# Altium footprint library eecs5x.PcbLib: 161 footprints (part 11 of 11)
Each footprint in its own frame and in the unit in brackets; x right, y up, seen from the top. Pads: shape width x height; smd on the part's side, far side on the other; paste and mask are expansions set on the pad; w line width, h text height; cw(c..) or ccw(c..) is an arc to the next point about the centre after c.
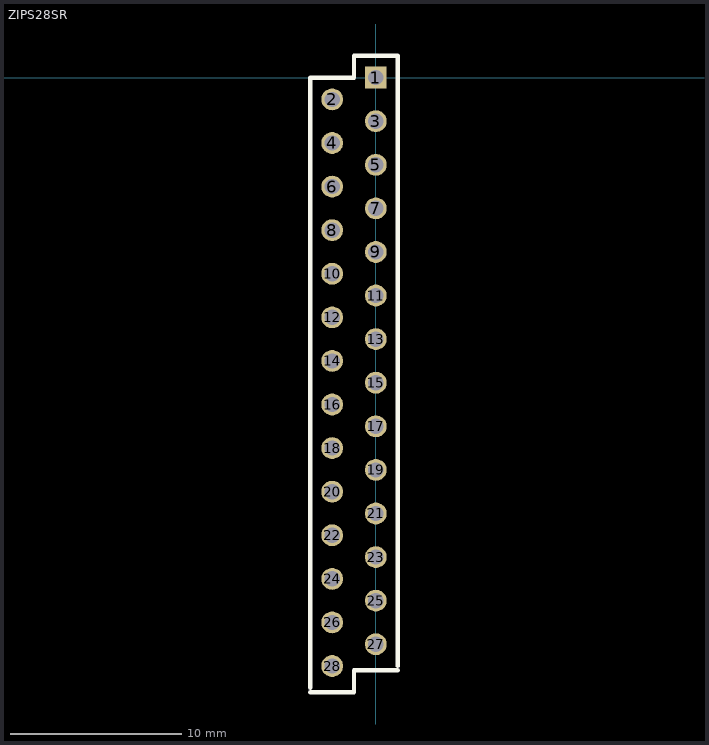
[diagram p10: the footprint, top view; thin cyan lines are the x and y axes]

## ZIPS28SR [mil]
pads (28):
  rect 50x50 hole 35: 1(0,0)
  round 50 hole 35: 2(-100,-50) 3(0,-100) 4(-100,-150) 5(0,-200) 6(-100,-250) 7(0,-300) 8(-100,-350) 9(0,-400) 10(-100,-450) 11(0,-500) 12(-100,-550) 13(0,-600) 14(-100,-650) 15(0,-700) 16(-100,-750) 17(0,-800) 18(-100,-850) 19(0,-900) 20(-100,-950) 21(0,-1000) 22(-100,-1050) 23(0,-1100) 24(-100,-1150) 25(0,-1200) 26(-100,-1250) 27(0,-1300) 28(-100,-1350)
Top Overlay:
  lines w10: -150,-1410 -50,-1410 -50,-1360 50,-1360 ; -150,-1400 -150,0 -50,0 -50,50 50,50 50,-1350